# Altium integrated library ON Semi General Purpose Transistors.IntLib: 1679 symbols (part 33 of 36)
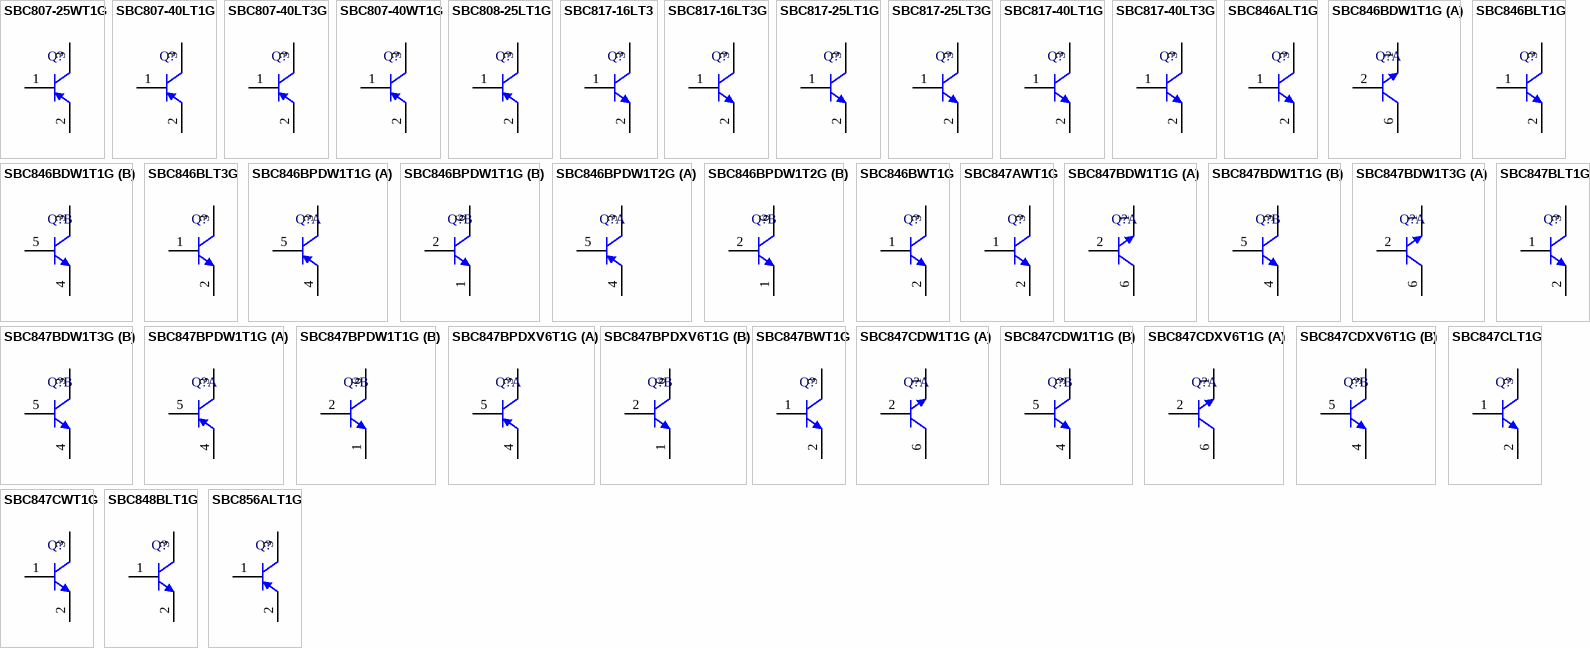
[diagram p77: symbols SBC807-25WT1G to SBC856ALT1G]

## SBC847CDW1T1G
designator Q?
Dual General Purpose Transistors, NPN, 6-Pin SOT-363, Pb-Free, Tape and Reel; Manufacturer: On Semiconductor; PartNumber: SBC847CDW1T1G; fT Min (MHz): 100; IC Continuous (A): 0.1; Polarity: Dual NPN; DatasheetVersion: Rev. 9; PackageVersion: Rev. W, 01/2006; PackageReference: SOT-363-6-419B-02_W; PackageDescription: 6-Pin Small Outline Transistor, Body 2 x 1.25 mm, Pitch 0.65 mm; Supplier 1: Digi-Key; Supplier Part Number 1: SBC847CDW1T1G-ND; Supplier 2: Mouser; Supplier Part Number 2: 863-SBC847CDW1T1G; Packing: Tape and Reel; RoHS: TRUE; Mounting Technology: Surface Mount; ComponentLink1Description: Manufacturer URL; ComponentLink1URL: http://www.onsemi.com/; ComponentLink2Description: Datasheet; ComponentLink2URL: http://www.onsemi.cn/pub_link/Collateral/BC846BDW1T1-D.PDF; ComponentLink3Description: Package Specification; ComponentLink3URL: http://www.onsemi.com/pub_link/Collateral/NTJD4001N-D.PDF
footprint ONSC-SOT-363-6-419B-02_W_V (SOT23, 6-Leads, Body 2x1.25mm, Pitch 0.65mm)
part A pins: 1 E, 2 B, 6 C
part B pins: 3 C, 4 E, 5 B

## SBC847CDXV6T1G
designator Q?
Dual General Purpose Transistors, NPN, 6-Pin SOT-563, Pb-Free, Tape and Reel; Manufacturer: On Semiconductor; PartNumber: SBC847CDXV6T1G; fT Min (MHz): 100; IC Continuous (A): 0.1; Polarity: Dual NPN; DatasheetVersion: Rev. 4; PackageVersion: Rev. F, 04/2005; PackageReference: SOT-563-6-463A-01; PackageDescription: 6-Pin Small Outline Transistor, Body 1.6 x 1.2 mm, Pitch 0.5 mm; Supplier 1: Digi-Key; Supplier Part Number 1: SBC847CDXV6T1G-ND; Supplier 2: Mouser; Supplier Part Number 2: 863-SBC847CDXV6T1G; Packing: Tape and Reel; RoHS: TRUE; Mounting Technology: Surface Mount; ComponentLink1Description: Manufacturer URL; ComponentLink1URL: http://www.onsemi.com/; ComponentLink2Description: Datasheet; ComponentLink2URL: http://www.onsemi.cn/pub_link/Collateral/BC847CDXV6T1-D.PDF; ComponentLink3Description: Package Specification; ComponentLink3URL: http://www.onsemi.cn/pub_link/Collateral/463A-01.PDF
footprint ONSC-SOT-563-6-463A-01_V (SOT23, 6-Leads, Body 1.6x1.2mm, Pitch 0.5mm)
part A pins: 1 E, 2 B, 6 C
part B pins: 3 C, 4 E, 5 B

## SBC847CLT1G
designator Q?
General Purpose Transistor, NPN Silicon, 3-Pin SOT-23, Pb-Free, Tape and Reel; Manufacturer: On Semiconductor; PartNumber: SBC847CLT1G; fT Min (MHz): 100; IC Continuous (A): 0.1; DatasheetVersion: Rev. 11; PackageVersion: Rev. AP, 11/2009; PackageReference: SOT-23-3-318-08; PackageDescription: 3-Pin Small Outline Transistor, Body 2.92 x 1.3 mm, Pitch 0.95 mm; Supplier 1: Digi-Key; Supplier Part Number 1: SBC847CLT1G-ND; Supplier 2: Mouser; Supplier Part Number 2: 863-SBC847CLT1G; Packing: Tape and Reel; Polarity: NPN; RoHS: TRUE; Mounting Technology: Surface Mount; ComponentLink1Description: Manufacturer URL; ComponentLink1URL: http://www.onsemi.com/; ComponentLink2Description: Datasheet; ComponentLink2URL: http://www.onsemi.cn/pub_link/Collateral/BC846ALT1-D.PDF; ComponentLink3Description: Package Specification; ComponentLink3URL: http://www.onsemi.cn/pub_link/Collateral/318-08.PDF
footprint ONSC-SOT-23-3-318-08_V (SOT23, 3-Leads, Body 2.92x1.3mm, Pitch 0.95mm)
pins: 1 B, 2 E, 3 C

## SBC847CWT1G
designator Q?
General Purpose Transistor, NPN Silicon, 3-Pin SC70, Pb-Free, Tape and Reel; Manufacturer: On Semiconductor; PartNumber: SBC847CWT1G; fT Min (MHz): 100; IC Continuous (A): 0.1; DatasheetVersion: Rev. 9; PackageVersion: Rev. N, 11/2008; PackageReference: SC-70-3-419-04; PackageDescription: 3-Pin Small Outline Transistor, Body 2 x 1.25 mm, Pitch 0.65 mm; Supplier 1: Digi-Key; Supplier Part Number 1: SBC847CWT1G-ND; Supplier 2: Mouser; Supplier Part Number 2: 863-SBC847CWT1G; Packing: Tape and Reel; Polarity: NPN; RoHS: TRUE; Mounting Technology: Surface Mount; ComponentLink1Description: Manufacturer URL; ComponentLink1URL: http://www.onsemi.com/; ComponentLink2Description: Datasheet; ComponentLink2URL: http://www.onsemi.cn/pub_link/Collateral/BC846AWT1-D.PDF; ComponentLink3Description: Package Specification; ComponentLink3URL: http://www.onsemi.cn/pub_link/Collateral/419-04.PDF
footprint ONSC-SC-70-3-419-04_V (SOT23, 3-Leads, Body 2x1.25mm, Pitch 0.65mm)
pins: 1 B, 2 E, 3 C

## SBC848BLT1G
designator Q?
General Purpose Transistor, NPN Silicon, 3-Pin SOT-23, Pb-Free, Tape and Reel; Manufacturer: On Semiconductor; PartNumber: SBC848BLT1G; fT Min (MHz): 100; IC Continuous (A): 0.1; DatasheetVersion: Rev. 11; PackageVersion: Rev. AP, 11/2009; PackageReference: SOT-23-3-318-08; PackageDescription: 3-Pin Small Outline Transistor, Body 2.92 x 1.3 mm, Pitch 0.95 mm; Supplier 1: Digi-Key; Supplier Part Number 1: SBC848BLT1G-ND; Supplier 2: Mouser; Supplier Part Number 2: 863-SBC848BLT1G; Packing: Tape and Reel; Polarity: NPN; RoHS: TRUE; Mounting Technology: Surface Mount; ComponentLink1Description: Manufacturer URL; ComponentLink1URL: http://www.onsemi.com/; ComponentLink2Description: Datasheet; ComponentLink2URL: http://www.onsemi.cn/pub_link/Collateral/BC846ALT1-D.PDF; ComponentLink3Description: Package Specification; ComponentLink3URL: http://www.onsemi.cn/pub_link/Collateral/318-08.PDF
footprint ONSC-SOT-23-3-318-08_V (SOT23, 3-Leads, Body 2.92x1.3mm, Pitch 0.95mm)
pins: 1 B, 2 E, 3 C

## SBC856ALT1G
designator Q?
General Purpose Transistor, PNP Silicon, 3-Pin SOT-23, Pb-Free, Tape and Reel; Manufacturer: On Semiconductor; PartNumber: SBC856ALT1G; fT Min (MHz): 100; IC Continuous (A): -0.1; DatasheetVersion: Rev. 13; PackageVersion: Rev. AP, 11/2009; PackageReference: SOT-23-3-318-08; PackageDescription: 3-Pin Small Outline Transistor, Body 2.92 x 1.3 mm, Pitch 0.95 mm; Supplier 1: Digi-Key; Supplier Part Number 1: SBC856ALT1G-ND; Supplier 2: Mouser; Supplier Part Number 2: 863-SBC856ALT1G; Packing: Tape and Reel; Polarity: PNP; RoHS: TRUE; Mounting Technology: Surface Mount; ComponentLink1Description: Manufacturer URL; ComponentLink1URL: http://www.onsemi.com/; ComponentLink2Description: Datasheet; ComponentLink2URL: http://www.onsemi.cn/pub_link/Collateral/BC856ALT1-D.PDF; ComponentLink3Description: Package Specification; ComponentLink3URL: http://www.onsemi.cn/pub_link/Collateral/318-08.PDF
footprint ONSC-SOT-23-3-318-08_V (SOT23, 3-Leads, Body 2.92x1.3mm, Pitch 0.95mm)
pins: 1 B, 2 E, 3 C

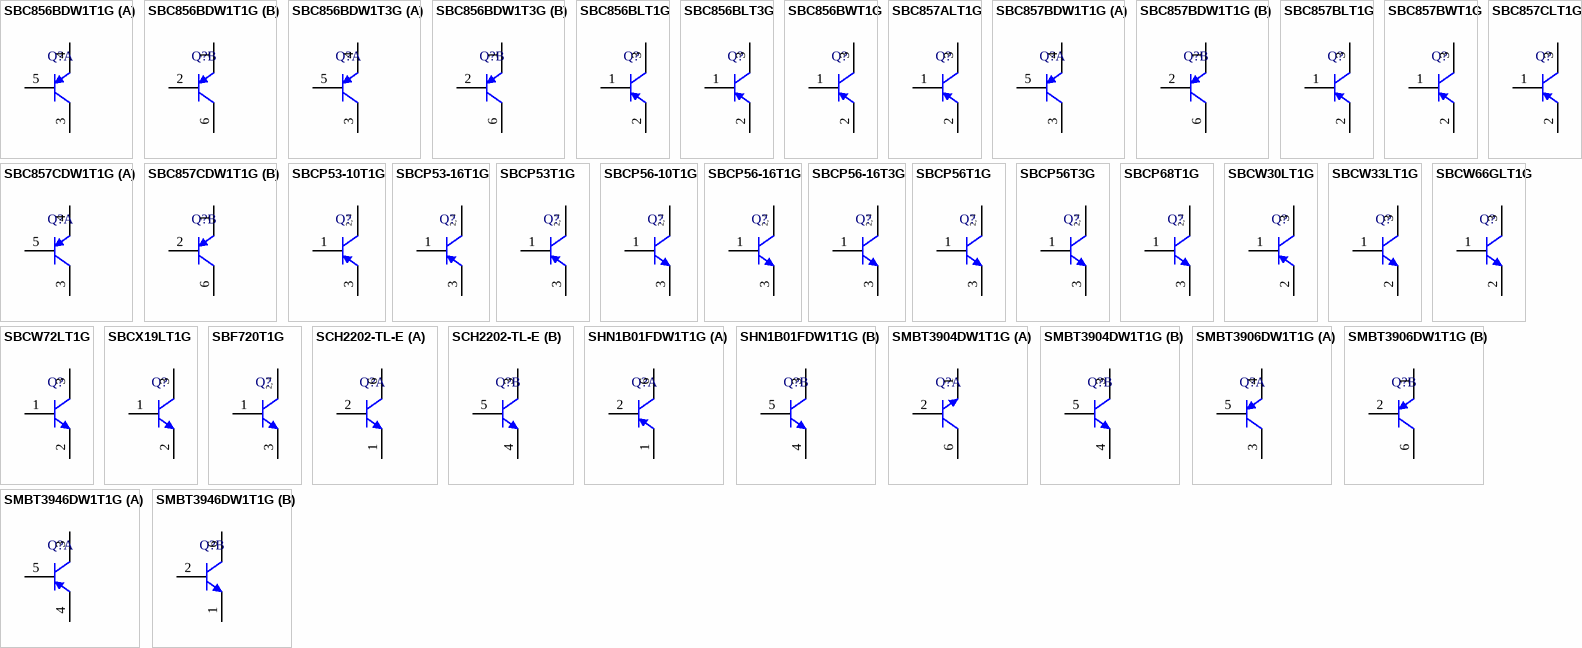
[diagram p41: symbols SBC856BDW1T1G to SMBT3946DW1T1G]

## SBC856BDW1T1G
designator Q?
Dual General Purpose Transistors, PNP, 6-Pin SOT-363, Pb-Free, Tape and Reel; Manufacturer: On Semiconductor; PartNumber: SBC856BDW1T1G; fT Min (MHz): 100; IC Continuous (A): -0.1; Polarity: Dual PNP; DatasheetVersion: Rev. 9; PackageVersion: Rev. W, 01/2006; PackageReference: SOT-363-6-419B-02_W; PackageDescription: 6-Pin Small Outline Transistor, Body 2 x 1.25 mm, Pitch 0.65 mm; Supplier 1: Digi-Key; Supplier Part Number 1: SBC856BDW1T1G-ND; Supplier 2: Mouser; Supplier Part Number 2: 863-SBC856BDW1T1G; Packing: Tape and Reel; RoHS: TRUE; Mounting Technology: Surface Mount; ComponentLink1Description: Manufacturer URL; ComponentLink1URL: http://www.onsemi.com/; ComponentLink2Description: Datasheet; ComponentLink2URL: http://www.onsemi.cn/pub_link/Collateral/BC856BDW1T1-D.PDF; ComponentLink3Description: Package Specification; ComponentLink3URL: http://www.onsemi.com/pub_link/Collateral/NTJD4001N-D.PDF
footprint ONSC-SOT-363-6-419B-02_W_V (SOT23, 6-Leads, Body 2x1.25mm, Pitch 0.65mm)
part A pins: 3 C, 4 E, 5 B
part B pins: 1 E, 2 B, 6 C

## SBC856BDW1T3G
designator Q?
Dual General Purpose Transistors, PNP, 6-Pin SOT-363, Pb-Free, Tape and Reel; Manufacturer: On Semiconductor; PartNumber: SBC856BDW1T3G; fT Min (MHz): 100; IC Continuous (A): -0.1; Polarity: Dual PNP; DatasheetVersion: Rev. 9; PackageVersion: Rev. W, 01/2006; PackageReference: SOT-363-6-419B-02_W; PackageDescription: 6-Pin Small Outline Transistor, Body 2 x 1.25 mm, Pitch 0.65 mm; Supplier 1: Digi-Key; Supplier Part Number 1: SBC856BDW1T3G-ND; Supplier 2: Mouser; Supplier Part Number 2: 863-SBC856BDW1T3G; Packing: Tape and Reel; RoHS: TRUE; Mounting Technology: Surface Mount; ComponentLink1Description: Manufacturer URL; ComponentLink1URL: http://www.onsemi.com/; ComponentLink2Description: Datasheet; ComponentLink2URL: http://www.onsemi.cn/pub_link/Collateral/BC856BDW1T1-D.PDF; ComponentLink3Description: Package Specification; ComponentLink3URL: http://www.onsemi.com/pub_link/Collateral/NTJD4001N-D.PDF
footprint ONSC-SOT-363-6-419B-02_W_V (SOT23, 6-Leads, Body 2x1.25mm, Pitch 0.65mm)
part A pins: 3 C, 4 E, 5 B
part B pins: 1 E, 2 B, 6 C

## SBC856BLT1G
designator Q?
General Purpose Transistor, PNP Silicon, 3-Pin SOT-23, Pb-Free, Tape and Reel; Manufacturer: On Semiconductor; PartNumber: SBC856BLT1G; fT Min (MHz): 100; IC Continuous (A): -0.1; DatasheetVersion: Rev. 13; PackageVersion: Rev. AP, 11/2009; PackageReference: SOT-23-3-318-08; PackageDescription: 3-Pin Small Outline Transistor, Body 2.92 x 1.3 mm, Pitch 0.95 mm; Supplier 1: Digi-Key; Supplier Part Number 1: SBC856BLT1G-ND; Supplier 2: Mouser; Supplier Part Number 2: 863-SBC856BLT1G; Packing: Tape and Reel; Polarity: PNP; RoHS: TRUE; Mounting Technology: Surface Mount; ComponentLink1Description: Manufacturer URL; ComponentLink1URL: http://www.onsemi.com/; ComponentLink2Description: Datasheet; ComponentLink2URL: http://www.onsemi.cn/pub_link/Collateral/BC856ALT1-D.PDF; ComponentLink3Description: Package Specification; ComponentLink3URL: http://www.onsemi.cn/pub_link/Collateral/318-08.PDF
footprint ONSC-SOT-23-3-318-08_V (SOT23, 3-Leads, Body 2.92x1.3mm, Pitch 0.95mm)
pins: 1 B, 2 E, 3 C

## SBC856BLT3G
designator Q?
General Purpose Transistor, PNP Silicon, 3-Pin SOT-23, Pb-Free, Tape and Reel; Manufacturer: On Semiconductor; PartNumber: SBC856BLT3G; fT Min (MHz): 100; IC Continuous (A): -0.1; DatasheetVersion: Rev. 13; PackageVersion: Rev. AP, 11/2009; PackageReference: SOT-23-3-318-08; PackageDescription: 3-Pin Small Outline Transistor, Body 2.92 x 1.3 mm, Pitch 0.95 mm; Supplier 1: Digi-Key; Supplier Part Number 1: SBC856BLT3G-ND; Supplier 2: Mouser; Supplier Part Number 2: 863-SBC856BLT3G; Packing: Tape and Reel; Polarity: PNP; RoHS: TRUE; Mounting Technology: Surface Mount; ComponentLink1Description: Manufacturer URL; ComponentLink1URL: http://www.onsemi.com/; ComponentLink2Description: Datasheet; ComponentLink2URL: http://www.onsemi.cn/pub_link/Collateral/BC856ALT1-D.PDF; ComponentLink3Description: Package Specification; ComponentLink3URL: http://www.onsemi.cn/pub_link/Collateral/318-08.PDF
footprint ONSC-SOT-23-3-318-08_V (SOT23, 3-Leads, Body 2.92x1.3mm, Pitch 0.95mm)
pins: 1 B, 2 E, 3 C

## SBC856BWT1G
designator Q?
General Purpose Transistor, PNP Silicon, 3-Pin SC70, Pb-Free, Tape and Reel; Manufacturer: On Semiconductor; PartNumber: SBC856BWT1G; fT Min (MHz): 100; IC Continuous (A): -0.1; DatasheetVersion: Rev. 3; PackageVersion: Rev. N, 11/2008; PackageReference: SC-70-3-419-04; PackageDescription: 3-Pin Small Outline Transistor, Body 2 x 1.25 mm, Pitch 0.65 mm; Supplier 1: Digi-Key; Supplier Part Number 1: SBC856BWT1G-ND; Supplier 2: Mouser; Supplier Part Number 2: 863-SBC856BWT1G; Packing: Tape and Reel; Polarity: PNP; RoHS: TRUE; Mounting Technology: Surface Mount; ComponentLink1Description: Manufacturer URL; ComponentLink1URL: http://www.onsemi.com/; ComponentLink2Description: Datasheet; ComponentLink2URL: http://www.onsemi.cn/pub_link/Collateral/BC856BWT1-D.PDF; ComponentLink3Description: Package Specification; ComponentLink3URL: http://www.onsemi.cn/pub_link/Collateral/419-04.PDF
footprint ONSC-SC-70-3-419-04_V (SOT23, 3-Leads, Body 2x1.25mm, Pitch 0.65mm)
pins: 1 B, 2 E, 3 C

## SBC857ALT1G
designator Q?
General Purpose Transistor, PNP Silicon, 3-Pin SOT-23, Pb-Free, Tape and Reel; Manufacturer: On Semiconductor; PartNumber: SBC857ALT1G; fT Min (MHz): 100; IC Continuous (A): -0.1; DatasheetVersion: Rev. 13; PackageVersion: Rev. AP, 11/2009; PackageReference: SOT-23-3-318-08; PackageDescription: 3-Pin Small Outline Transistor, Body 2.92 x 1.3 mm, Pitch 0.95 mm; Supplier 1: Digi-Key; Supplier Part Number 1: SBC857ALT1G-ND; Supplier 2: Mouser; Supplier Part Number 2: 863-SBC857ALT1G; Packing: Tape and Reel; Polarity: PNP; RoHS: TRUE; Mounting Technology: Surface Mount; ComponentLink1Description: Manufacturer URL; ComponentLink1URL: http://www.onsemi.com/; ComponentLink2Description: Datasheet; ComponentLink2URL: http://www.onsemi.cn/pub_link/Collateral/BC856ALT1-D.PDF; ComponentLink3Description: Package Specification; ComponentLink3URL: http://www.onsemi.cn/pub_link/Collateral/318-08.PDF
footprint ONSC-SOT-23-3-318-08_V (SOT23, 3-Leads, Body 2.92x1.3mm, Pitch 0.95mm)
pins: 1 B, 2 E, 3 C

## SBC857BDW1T1G
designator Q?
Dual General Purpose Transistors, PNP, 6-Pin SOT-363, Pb-Free, Tape and Reel; Manufacturer: On Semiconductor; PartNumber: SBC857BDW1T1G; fT Min (MHz): 100; IC Continuous (A): -0.1; Polarity: Dual PNP; DatasheetVersion: Rev. 9; PackageVersion: Rev. W, 01/2006; PackageReference: SOT-363-6-419B-02_W; PackageDescription: 6-Pin Small Outline Transistor, Body 2 x 1.25 mm, Pitch 0.65 mm; Supplier 1: Digi-Key; Supplier Part Number 1: SBC857BDW1T1G-ND; Supplier 2: Mouser; Supplier Part Number 2: 863-SBC857BDW1T1G; Packing: Tape and Reel; RoHS: TRUE; Mounting Technology: Surface Mount; ComponentLink1Description: Manufacturer URL; ComponentLink1URL: http://www.onsemi.com/; ComponentLink2Description: Datasheet; ComponentLink2URL: http://www.onsemi.cn/pub_link/Collateral/BC856BDW1T1-D.PDF; ComponentLink3Description: Package Specification; ComponentLink3URL: http://www.onsemi.com/pub_link/Collateral/NTJD4001N-D.PDF
footprint ONSC-SOT-363-6-419B-02_W_V (SOT23, 6-Leads, Body 2x1.25mm, Pitch 0.65mm)
part A pins: 3 C, 4 E, 5 B
part B pins: 1 E, 2 B, 6 C

## SBC857BLT1G
designator Q?
General Purpose Transistor, PNP Silicon, 3-Pin SOT-23, Pb-Free, Tape and Reel; Manufacturer: On Semiconductor; PartNumber: SBC857BLT1G; fT Min (MHz): 100; IC Continuous (A): -0.1; DatasheetVersion: Rev. 13; PackageVersion: Rev. AP, 11/2009; PackageReference: SOT-23-3-318-08; PackageDescription: 3-Pin Small Outline Transistor, Body 2.92 x 1.3 mm, Pitch 0.95 mm; Supplier 1: Digi-Key; Supplier Part Number 1: SBC857BLT1G-ND; Supplier 2: Mouser; Supplier Part Number 2: 863-SBC857BLT1G; Packing: Tape and Reel; Polarity: PNP; RoHS: TRUE; Mounting Technology: Surface Mount; ComponentLink1Description: Manufacturer URL; ComponentLink1URL: http://www.onsemi.com/; ComponentLink2Description: Datasheet; ComponentLink2URL: http://www.onsemi.cn/pub_link/Collateral/BC856ALT1-D.PDF; ComponentLink3Description: Package Specification; ComponentLink3URL: http://www.onsemi.cn/pub_link/Collateral/318-08.PDF
footprint ONSC-SOT-23-3-318-08_V (SOT23, 3-Leads, Body 2.92x1.3mm, Pitch 0.95mm)
pins: 1 B, 2 E, 3 C

## SBC857BWT1G
designator Q?
General Purpose Transistor, PNP Silicon, 3-Pin SC70, Pb-Free, Tape and Reel; Manufacturer: On Semiconductor; PartNumber: SBC857BWT1G; fT Min (MHz): 100; IC Continuous (A): -0.1; DatasheetVersion: Rev. 3; PackageVersion: Rev. N, 11/2008; PackageReference: SC-70-3-419-04; PackageDescription: 3-Pin Small Outline Transistor, Body 2 x 1.25 mm, Pitch 0.65 mm; Supplier 1: Digi-Key; Supplier Part Number 1: SBC857BWT1G-ND; Supplier 2: Mouser; Supplier Part Number 2: 863-SBC857BWT1G; Packing: Tape and Reel; Polarity: PNP; RoHS: TRUE; Mounting Technology: Surface Mount; ComponentLink1Description: Manufacturer URL; ComponentLink1URL: http://www.onsemi.com/; ComponentLink2Description: Datasheet; ComponentLink2URL: http://www.onsemi.cn/pub_link/Collateral/BC856BWT1-D.PDF; ComponentLink3Description: Package Specification; ComponentLink3URL: http://www.onsemi.cn/pub_link/Collateral/419-04.PDF
footprint ONSC-SC-70-3-419-04_V (SOT23, 3-Leads, Body 2x1.25mm, Pitch 0.65mm)
pins: 1 B, 2 E, 3 C

## SBC857CDW1T1G
designator Q?
Dual General Purpose Transistors, PNP, 6-Pin SOT-363, Pb-Free, Tape and Reel; Manufacturer: On Semiconductor; PartNumber: SBC857CDW1T1G; fT Min (MHz): 100; IC Continuous (A): -0.1; Polarity: Dual PNP; DatasheetVersion: Rev. 9; PackageVersion: Rev. W, 01/2006; PackageReference: SOT-363-6-419B-02_W; PackageDescription: 6-Pin Small Outline Transistor, Body 2 x 1.25 mm, Pitch 0.65 mm; Supplier 1: Digi-Key; Supplier Part Number 1: SBC857CDW1T1G-ND; Supplier 2: Mouser; Supplier Part Number 2: 863-SBC857CDW1T1G; Packing: Tape and Reel; RoHS: TRUE; Mounting Technology: Surface Mount; ComponentLink1Description: Manufacturer URL; ComponentLink1URL: http://www.onsemi.com/; ComponentLink2Description: Datasheet; ComponentLink2URL: http://www.onsemi.cn/pub_link/Collateral/BC856BDW1T1-D.PDF; ComponentLink3Description: Package Specification; ComponentLink3URL: http://www.onsemi.com/pub_link/Collateral/NTJD4001N-D.PDF
footprint ONSC-SOT-363-6-419B-02_W_V (SOT23, 6-Leads, Body 2x1.25mm, Pitch 0.65mm)
part A pins: 3 C, 4 E, 5 B
part B pins: 1 E, 2 B, 6 C

## SBC857CLT1G
designator Q?
General Purpose Transistor, PNP Silicon, 3-Pin SOT-23, Pb-Free, Tape and Reel; Manufacturer: On Semiconductor; PartNumber: SBC857CLT1G; fT Min (MHz): 100; IC Continuous (A): -0.1; DatasheetVersion: Rev. 13; PackageVersion: Rev. AP, 11/2009; PackageReference: SOT-23-3-318-08; PackageDescription: 3-Pin Small Outline Transistor, Body 2.92 x 1.3 mm, Pitch 0.95 mm; Supplier 1: Digi-Key; Supplier Part Number 1: SBC857CLT1G-ND; Supplier 2: Mouser; Supplier Part Number 2: 863-SBC857CLT1G; Packing: Tape and Reel; Polarity: PNP; RoHS: TRUE; Mounting Technology: Surface Mount; ComponentLink1Description: Manufacturer URL; ComponentLink1URL: http://www.onsemi.com/; ComponentLink2Description: Datasheet; ComponentLink2URL: http://www.onsemi.cn/pub_link/Collateral/BC856ALT1-D.PDF; ComponentLink3Description: Package Specification; ComponentLink3URL: http://www.onsemi.cn/pub_link/Collateral/318-08.PDF
footprint ONSC-SOT-23-3-318-08_V (SOT23, 3-Leads, Body 2.92x1.3mm, Pitch 0.95mm)
pins: 1 B, 2 E, 3 C

## SBCP53-10T1G
designator Q?
PNP Silicon Epitaxial Transistor, 4-Pin SOT-223, Pb-Free, Tape and Reel; Manufacturer: On Semiconductor; PartNumber: SBCP53-10T1G; IC Continuous (A): 1.5; DatasheetVersion: Rev. 10; PackageVersion: Rev. N, 08/2009; PackageReference: SOT-223-4-318E-04; PackageDescription: 4-Pin Small Outline Transistor, Body 6.5 x 3.5 mm, Pitch 2.3 mm; Supplier 1: Digi-Key; Supplier Part Number 1: SBCP53-10T1G-ND; Supplier 2: Mouser; Supplier Part Number 2: 863-SBCP53-10T1G; Packing: Tape and Reel; Polarity: PNP; RoHS: TRUE; Mounting Technology: Surface Mount; ComponentLink1Description: Manufacturer URL; ComponentLink1URL: http://www.onsemi.com/; ComponentLink2Description: Datasheet; ComponentLink2URL: http://www.onsemi.com/pub_link/Collateral/BCP53T1-D.PDF; ComponentLink3Description: Package Specification; ComponentLink3URL: http://www.onsemi.com/pub_link/Collateral/318E-04.PDF
footprint ONSC-SOT-223-4-318E-04_V (SOT223, 4-Leads, Body 6.5x3.5mm, Pitch 2.3mm)
pins: 1 B, 2 C, 3 E, 4 C
text: 2, 4

## SBCP53-16T1G
designator Q?
PNP Silicon Epitaxial Transistor, 4-Pin SOT-223, Pb-Free, Tape and Reel; Manufacturer: On Semiconductor; PartNumber: SBCP53-16T1G; IC Continuous (A): 1.5; DatasheetVersion: Rev. 10; PackageVersion: Rev. N, 08/2009; PackageReference: SOT-223-4-318E-04; PackageDescription: 4-Pin Small Outline Transistor, Body 6.5 x 3.5 mm, Pitch 2.3 mm; Supplier 1: Digi-Key; Supplier Part Number 1: SBCP53-16T1G-ND; Supplier 2: Newark; Supplier Part Number 2: 76T7121; Supplier 3: Mouser; Supplier Part Number 3: 863-SBCP53-16T1G; Packing: Tape and Reel; Polarity: PNP; RoHS: TRUE; Mounting Technology: Surface Mount; ComponentLink1Description: Manufacturer URL; ComponentLink1URL: http://www.onsemi.com/; ComponentLink2Description: Datasheet; ComponentLink2URL: http://www.onsemi.com/pub_link/Collateral/BCP53T1-D.PDF; ComponentLink3Description: Package Specification; ComponentLink3URL: http://www.onsemi.com/pub_link/Collateral/318E-04.PDF
footprint ONSC-SOT-223-4-318E-04_V (SOT223, 4-Leads, Body 6.5x3.5mm, Pitch 2.3mm)
pins: 1 B, 2 C, 3 E, 4 C
text: 2, 4

## SBCP53T1G
designator Q?
PNP Silicon Epitaxial Transistor, 4-Pin SOT-223, Pb-Free, Tape and Reel; Manufacturer: On Semiconductor; PartNumber: SBCP53T1G; IC Continuous (A): 1.5; DatasheetVersion: Rev. 10; PackageVersion: Rev. N, 08/2009; PackageReference: SOT-223-4-318E-04; PackageDescription: 4-Pin Small Outline Transistor, Body 6.5 x 3.5 mm, Pitch 2.3 mm; Supplier 1: Digi-Key; Supplier Part Number 1: SBCP53T1G-ND; Supplier 2: Mouser; Supplier Part Number 2: 863-SBCP53T1G; Packing: Tape and Reel; Polarity: PNP; RoHS: TRUE; Mounting Technology: Surface Mount; ComponentLink1Description: Manufacturer URL; ComponentLink1URL: http://www.onsemi.com/; ComponentLink2Description: Datasheet; ComponentLink2URL: http://www.onsemi.com/pub_link/Collateral/BCP53T1-D.PDF; ComponentLink3Description: Package Specification; ComponentLink3URL: http://www.onsemi.com/pub_link/Collateral/318E-04.PDF
footprint ONSC-SOT-223-4-318E-04_V (SOT223, 4-Leads, Body 6.5x3.5mm, Pitch 2.3mm)
pins: 1 B, 2 C, 3 E, 4 C
text: 2, 4

## SBCP56-10T1G
designator Q?
NPN Silicon Epitaxial Transistor, 4-Pin SOT-223, Pb-Free, Tape and Reel; Manufacturer: On Semiconductor; PartNumber: SBCP56-10T1G; IC Continuous (A): 1; DatasheetVersion: Rev. 8; PackageVersion: Rev. N, 08/2009; PackageReference: SOT-223-4-318E-04; PackageDescription: 4-Pin Small Outline Transistor, Body 6.5 x 3.5 mm, Pitch 2.3 mm; Supplier 1: Digi-Key; Supplier Part Number 1: SBCP56-10T1G-ND; Supplier 2: Newark; Supplier Part Number 2: 76T7123; Supplier 3: Mouser; Supplier Part Number 3: 863-SBCP56-10T1G; Packing: Tape and Reel; Polarity: NPN; RoHS: TRUE; Mounting Technology: Surface Mount; ComponentLink1Description: Manufacturer URL; ComponentLink1URL: http://www.onsemi.com/; ComponentLink2Description: Datasheet; ComponentLink2URL: http://www.onsemi.com/pub_link/Collateral/BCP56T1-D.PDF; ComponentLink3Description: Package Specification; ComponentLink3URL: http://www.onsemi.com/pub_link/Collateral/318E-04.PDF
footprint ONSC-SOT-223-4-318E-04_V (SOT223, 4-Leads, Body 6.5x3.5mm, Pitch 2.3mm)
pins: 1 B, 2 C, 3 E, 4 C
text: 2, 4

## SBCP56-16T1G
designator Q?
NPN Silicon Epitaxial Transistor, 4-Pin SOT-223, Pb-Free, Tape and Reel; Manufacturer: On Semiconductor; PartNumber: SBCP56-16T1G; IC Continuous (A): 1; DatasheetVersion: Rev. 8; PackageVersion: Rev. N, 08/2009; PackageReference: SOT-223-4-318E-04; PackageDescription: 4-Pin Small Outline Transistor, Body 6.5 x 3.5 mm, Pitch 2.3 mm; Supplier 1: Digi-Key; Supplier Part Number 1: SBCP56-16T1G-ND; Supplier 2: Newark; Supplier Part Number 2: 76T7124; Supplier 3: Mouser; Supplier Part Number 3: 863-SBCP56-16T1G; Packing: Tape and Reel; Polarity: NPN; RoHS: TRUE; Mounting Technology: Surface Mount; ComponentLink1Description: Manufacturer URL; ComponentLink1URL: http://www.onsemi.com/; ComponentLink2Description: Datasheet; ComponentLink2URL: http://www.onsemi.com/pub_link/Collateral/BCP56T1-D.PDF; ComponentLink3Description: Package Specification; ComponentLink3URL: http://www.onsemi.com/pub_link/Collateral/318E-04.PDF
footprint ONSC-SOT-223-4-318E-04_V (SOT223, 4-Leads, Body 6.5x3.5mm, Pitch 2.3mm)
pins: 1 B, 2 C, 3 E, 4 C
text: 2, 4

## SBCP56-16T3G
designator Q?
NPN Silicon Epitaxial Transistor, 4-Pin SOT-223, Pb-Free, Tape and Reel; Manufacturer: On Semiconductor; PartNumber: SBCP56-16T3G; IC Continuous (A): 1; DatasheetVersion: Rev. 8; PackageVersion: Rev. N, 08/2009; PackageReference: SOT-223-4-318E-04; PackageDescription: 4-Pin Small Outline Transistor, Body 6.5 x 3.5 mm, Pitch 2.3 mm; Supplier 1: Digi-Key; Supplier Part Number 1: SBCP56-16T3G-ND; Supplier 2: Mouser; Supplier Part Number 2: 863-SBCP56-16T3G; Packing: Tape and Reel; Polarity: NPN; RoHS: TRUE; Mounting Technology: Surface Mount; ComponentLink1Description: Manufacturer URL; ComponentLink1URL: http://www.onsemi.com/; ComponentLink2Description: Datasheet; ComponentLink2URL: http://www.onsemi.com/pub_link/Collateral/BCP56T1-D.PDF; ComponentLink3Description: Package Specification; ComponentLink3URL: http://www.onsemi.com/pub_link/Collateral/318E-04.PDF
footprint ONSC-SOT-223-4-318E-04_V (SOT223, 4-Leads, Body 6.5x3.5mm, Pitch 2.3mm)
pins: 1 B, 2 C, 3 E, 4 C
text: 2, 4

## SBCP56T1G
designator Q?
NPN Silicon Epitaxial Transistor, 4-Pin SOT-223, Pb-Free, Tape and Reel; Manufacturer: On Semiconductor; PartNumber: SBCP56T1G; IC Continuous (A): 1; DatasheetVersion: Rev. 8; PackageVersion: Rev. N, 08/2009; PackageReference: SOT-223-4-318E-04; PackageDescription: 4-Pin Small Outline Transistor, Body 6.5 x 3.5 mm, Pitch 2.3 mm; Supplier 1: Digi-Key; Supplier Part Number 1: SBCP56T1G-ND; Supplier 2: Newark; Supplier Part Number 2: 76T7126; Supplier 3: Mouser; Supplier Part Number 3: 863-SBCP56T1G; Packing: Tape and Reel; Polarity: NPN; RoHS: TRUE; Mounting Technology: Surface Mount; ComponentLink1Description: Manufacturer URL; ComponentLink1URL: http://www.onsemi.com/; ComponentLink2Description: Datasheet; ComponentLink2URL: http://www.onsemi.com/pub_link/Collateral/BCP56T1-D.PDF; ComponentLink3Description: Package Specification; ComponentLink3URL: http://www.onsemi.com/pub_link/Collateral/318E-04.PDF
footprint ONSC-SOT-223-4-318E-04_V (SOT223, 4-Leads, Body 6.5x3.5mm, Pitch 2.3mm)
pins: 1 B, 2 C, 3 E, 4 C
text: 2, 4

## SBCP56T3G
designator Q?
NPN Silicon Epitaxial Transistor, 4-Pin SOT-223, Pb-Free, Tape and Reel; Manufacturer: On Semiconductor; PartNumber: SBCP56T3G; IC Continuous (A): 1; DatasheetVersion: Rev. 8; PackageVersion: Rev. N, 08/2009; PackageReference: SOT-223-4-318E-04; PackageDescription: 4-Pin Small Outline Transistor, Body 6.5 x 3.5 mm, Pitch 2.3 mm; Supplier 1: Digi-Key; Supplier Part Number 1: SBCP56T3G-ND; Supplier 2: Mouser; Supplier Part Number 2: 863-SBCP56T3G; Packing: Tape and Reel; Polarity: NPN; RoHS: TRUE; Mounting Technology: Surface Mount; ComponentLink1Description: Manufacturer URL; ComponentLink1URL: http://www.onsemi.com/; ComponentLink2Description: Datasheet; ComponentLink2URL: http://www.onsemi.com/pub_link/Collateral/BCP56T1-D.PDF; ComponentLink3Description: Package Specification; ComponentLink3URL: http://www.onsemi.com/pub_link/Collateral/318E-04.PDF
footprint ONSC-SOT-223-4-318E-04_V (SOT223, 4-Leads, Body 6.5x3.5mm, Pitch 2.3mm)
pins: 1 B, 2 C, 3 E, 4 C
text: 2, 4

## SBCP68T1G
designator Q?
NPN Silicon Epitaxial Transistor, 4-Pin SOT-223, Pb-Free, Tape and Reel; Manufacturer: On Semiconductor; PartNumber: SBCP68T1G; IC Continuous (A): 1; DatasheetVersion: Rev. 8; PackageVersion: Rev. N, 08/2009; PackageReference: SOT-223-4-318E-04; PackageDescription: 4-Pin Small Outline Transistor, Body 6.5 x 3.5 mm, Pitch 2.3 mm; Supplier 1: Digi-Key; Supplier Part Number 1: SBCP68T1GOSTR-ND; Supplier 2: Digi-Key; Supplier Part Number 2: SBCP68T1GOSCT-ND; Supplier 3: Digi-Key; Supplier Part Number 3: SBCP68T1GOSDKR-ND; Supplier 4: Newark; Supplier Part Number 4: 76T7128; Supplier 5: Mouser; Supplier Part Number 5: 863-SBCP68T1G; Packing: Tape and Reel; Polarity: NPN; RoHS: TRUE; Mounting Technology: Surface Mount; ComponentLink1Description: Manufacturer URL; ComponentLink1URL: http://www.onsemi.com/; ComponentLink2Description: Datasheet; ComponentLink2URL: http://www.onsemi.com/pub_link/Collateral/BCP68T1-D.PDF; ComponentLink3Description: Package Specification; ComponentLink3URL: http://www.onsemi.com/pub_link/Collateral/318E-04.PDF
footprint ONSC-SOT-223-4-318E-04_V (SOT223, 4-Leads, Body 6.5x3.5mm, Pitch 2.3mm)
pins: 1 B, 2 C, 3 E, 4 C
text: 2, 4

## SBCW30LT1G
designator Q?
General Purpose Transistor, PNP Silicon, 3-Pin SOT-23, Pb-Free, Tape and Reel; Manufacturer: On Semiconductor; PartNumber: SBCW30LT1G; IC Continuous (A): -0.1; DatasheetVersion: Rev. 3; PackageVersion: Rev. AP, 11/2009; PackageReference: SOT-23-3-318-08; PackageDescription: 3-Pin Small Outline Transistor, Body 2.92 x 1.3 mm, Pitch 0.95 mm; Supplier 1: Digi-Key; Supplier Part Number 1: SBCW30LT1G-ND; Supplier 2: Mouser; Supplier Part Number 2: 863-SBCW30LT1G; Packing: Tape and Reel; Polarity: PNP; RoHS: TRUE; Mounting Technology: Surface Mount; ComponentLink1Description: Manufacturer URL; ComponentLink1URL: http://www.onsemi.com/; ComponentLink2Description: Datasheet; ComponentLink2URL: http://www.onsemi.com/pub_link/Collateral/BCW30LT1-D.PDF; ComponentLink3Description: Package Specification; ComponentLink3URL: http://www.onsemi.cn/pub_link/Collateral/318-08.PDF
footprint ONSC-SOT-23-3-318-08_V (SOT23, 3-Leads, Body 2.92x1.3mm, Pitch 0.95mm)
pins: 1 B, 2 E, 3 C

## SBCW33LT1G
designator Q?
General Purpose Transistor, NPN Silicon, 3-Pin SOT-23, Pb-Free, Tape and Reel; Manufacturer: On Semiconductor; PartNumber: SBCW33LT1G; IC Continuous (A): 0.1; DatasheetVersion: Rev. 5; PackageVersion: Rev. AP, 11/2009; PackageReference: SOT-23-3-318-08; PackageDescription: 3-Pin Small Outline Transistor, Body 2.92 x 1.3 mm, Pitch 0.95 mm; Supplier 1: Digi-Key; Supplier Part Number 1: SBCW33LT1G-ND; Supplier 2: Mouser; Supplier Part Number 2: 863-SBCW33LT1G; Packing: Tape and Reel; Polarity: NPN; RoHS: TRUE; Mounting Technology: Surface Mount; ComponentLink1Description: Manufacturer URL; ComponentLink1URL: http://www.onsemi.com/; ComponentLink2Description: Datasheet; ComponentLink2URL: http://www.onsemi.com/pub_link/Collateral/BCW33LT1-D.PDF; ComponentLink3Description: Package Specification; ComponentLink3URL: http://www.onsemi.cn/pub_link/Collateral/318-08.PDF
footprint ONSC-SOT-23-3-318-08_V (SOT23, 3-Leads, Body 2.92x1.3mm, Pitch 0.95mm)
pins: 1 B, 2 E, 3 C

## SBCW66GLT1G
designator Q?
General Purpose Transistor, NPN Silicon, 3-Pin SOT-23, Pb-Free, Tape and Reel; Manufacturer: On Semiconductor; PartNumber: SBCW66GLT1G; fT Min (MHz): 100; IC Continuous (A): 0.8; DatasheetVersion: Rev. 5; PackageVersion: Rev. AP, 11/2009; PackageReference: SOT-23-3-318-08; PackageDescription: 3-Pin Small Outline Transistor, Body 2.92 x 1.3 mm, Pitch 0.95 mm; Supplier 1: Digi-Key; Supplier Part Number 1: SBCW66GLT1G-ND; Supplier 2: Mouser; Supplier Part Number 2: 863-SBCW66GLT1G; Packing: Tape and Reel; Polarity: NPN; RoHS: TRUE; Mounting Technology: Surface Mount; ComponentLink1Description: Manufacturer URL; ComponentLink1URL: http://www.onsemi.com/; ComponentLink2Description: Datasheet; ComponentLink2URL: http://www.onsemi.com/pub_link/Collateral/BCW66GLT1-D.PDF; ComponentLink3Description: Package Specification; ComponentLink3URL: http://www.onsemi.cn/pub_link/Collateral/318-08.PDF
footprint ONSC-SOT-23-3-318-08_V (SOT23, 3-Leads, Body 2.92x1.3mm, Pitch 0.95mm)
pins: 1 B, 2 E, 3 C

## SBCW72LT1G
designator Q?
General Purpose Transistor, NPN Silicon, 3-Pin SOT-23, Pb-Free, Tape and Reel; Manufacturer: On Semiconductor; PartNumber: SBCW72LT1G; IC Continuous (A): 0.1; DatasheetVersion: Rev. 4; PackageVersion: Rev. AP, 11/2009; PackageReference: SOT-23-3-318-08; PackageDescription: 3-Pin Small Outline Transistor, Body 2.92 x 1.3 mm, Pitch 0.95 mm; Supplier 1: Digi-Key; Supplier Part Number 1: SBCW72LT1G-ND; Supplier 2: Mouser; Supplier Part Number 2: 863-SBCW72LT1G; Packing: Tape and Reel; Polarity: NPN; RoHS: TRUE; Mounting Technology: Surface Mount; ComponentLink1Description: Manufacturer URL; ComponentLink1URL: http://www.onsemi.com/; ComponentLink2Description: Datasheet; ComponentLink2URL: http://www.onsemi.com/pub_link/Collateral/BCW72LT1-D.PDF; ComponentLink3Description: Package Specification; ComponentLink3URL: http://www.onsemi.cn/pub_link/Collateral/318-08.PDF
footprint ONSC-SOT-23-3-318-08_V (SOT23, 3-Leads, Body 2.92x1.3mm, Pitch 0.95mm)
pins: 1 B, 2 E, 3 C

## SBCX19LT1G
designator Q?
45 V, 0.5 A, NPN Transistor, 3-Pin SOT-23, Pb-Free, Tape and Reel; Manufacturer: On Semiconductor; PartNumber: SBCX19LT1G; IC Continuous (A): 0.5; DatasheetVersion: Rev. 7; PackageVersion: Rev. AP, 11/2009; PackageReference: SOT-23-3-318-08; PackageDescription: 3-Pin Small Outline Transistor, Body 2.92 x 1.3 mm, Pitch 0.95 mm; Supplier 1: Digi-Key; Supplier Part Number 1: SBCX19LT1G-ND; Supplier 2: Mouser; Supplier Part Number 2: 863-SBCX19LT1G; Packing: Tape and Reel; Polarity: NPN; RoHS: TRUE; Mounting Technology: Surface Mount; ComponentLink1Description: Manufacturer URL; ComponentLink1URL: http://www.onsemi.com/; ComponentLink2Description: Datasheet; ComponentLink2URL: http://www.onsemi.com/pub_link/Collateral/BCX17LT1-D.PDF; ComponentLink3Description: Package Specification; ComponentLink3URL: http://www.onsemi.cn/pub_link/Collateral/318-08.PDF
footprint ONSC-SOT-23-3-318-08_V (SOT23, 3-Leads, Body 2.92x1.3mm, Pitch 0.95mm)
pins: 1 B, 2 E, 3 C

## SBF720T1G
designator Q?
NPN Silicon Transistor, 4-Pin SOT-223, Pb-Free, Tape and Reel; Manufacturer: On Semiconductor; PartNumber: SBF720T1G; Note: 0; fT Min (MHz): 60; IC Continuous (A): 0.1; DatasheetVersion: Rev. 8; PackageVersion: Rev. N, 08/2009; PackageReference: SOT-223-4-318E-04; PackageDescription: 4-Pin Small Outline Transistor, Body 6.5 x 3.5 mm, Pitch 2.3 mm; Packing: Tape and Reel; Polarity: NPN; RoHS: TRUE; Mounting Technology: Surface Mount; ComponentLink1Description: Manufacturer URL; ComponentLink1URL: http://www.onsemi.com/; ComponentLink2Description: Datasheet; ComponentLink2URL: http://www.onsemi.com/pub_link/Collateral/BF720T1-D.PDF; ComponentLink3Description: Package Specification; ComponentLink3URL: http://www.onsemi.com/pub_link/Collateral/318E-04.PDF
footprint ONSC-SOT-223-4-318E-04_V (SOT223, 4-Leads, Body 6.5x3.5mm, Pitch 2.3mm)
pins: 1 B, 2 C, 3 E, 4 C
text: 2, 4

## SCH2202-TL-E
designator Q?
Bipolar Transistor, 15 V, 0.6 A, Low VCE(sat), NPN Single, 6-Pin SOT-SCH, Pb-Free, Tape and Reel; Manufacturer: On Semiconductor; PartNumber: SCH2202-TL-E; IC Continuous (A): 0.6; Polarity: Dual NPN; PackageReference: SCH-6; PackageDescription: 6-Pin Small Outline No-Lead, Body 1.6 x 1.5 mm, Pitch 0.5 mm; Supplier 1: Digi-Key; Supplier Part Number 1: SCH2202-TL-E-ND; Supplier 2: Newark; Supplier Part Number 2: 65T1625; Supplier 3: Mouser; Supplier Part Number 3: 863-SCH2202-TL-E; Packing: Tape and Reel; RoHS: TRUE; Mounting Technology: Surface Mount; ComponentLink1Description: Manufacturer URL; ComponentLink1URL: http://www.onsemi.com/; ComponentLink2Description: Datasheet; ComponentLink2URL: http://www.onsemi.com/pub_link/Collateral/EN8043-D.PDF; ComponentLink3Description: Package Specification; ComponentLink3URL: http://www.onsemi.com/pub_link/Collateral/EN8043-D.PDF
footprint ONSC-SCH-6_V (SON, 6-Leads, Body 1.6x1.5mm, Pitch 0.5mm)
part A pins: 1 E, 2 B, 6 C
part B pins: 3 C, 4 E, 5 B

## SHN1B01FDW1T1G
designator Q?
Complementary Dual General Purpose Amplifier Transistors, PNP and NPN Surface Mount, 6-Pin SC-74, Pb-Free, Tape and Reel; Manufacturer: On Semiconductor; PartNumber: SHN1B01FDW1T1G; Note: 0; IC Continuous (A): 0.2; DatasheetVersion: Rev. 3; PackageVersion: Rev. N, 06/2012; PackageReference: SC-74-6-318F-05; PackageDescription: 6-Pin Small Outline Transistor, Body 3 x 1.5 mm, Pitch 0.95 mm; Packing: Tape and Reel; Polarity: Complementary; RoHS: TRUE; Mounting Technology: Surface Mount; ComponentLink1Description: Manufacturer URL; ComponentLink1URL: http://www.onsemi.com/; ComponentLink2Description: Datasheet; ComponentLink2URL: http://www.onsemi.com/pub_link/Collateral/HN1B01FDW1T1-D.PDF; ComponentLink3Description: Package Specification; ComponentLink3URL: http://www.onsemi.com/pub_link/Collateral/318F-05.PDF
footprint ONSC-SC-74-6-318F-05_V (SOT23, 6-Leads, Body 3x1.5mm, Pitch 0.95mm)
part A pins: 1 E, 2 B, 6 C
part B pins: 3 C, 4 E, 5 B

## SMBT3904DW1T1G
designator Q?
Dual General Purpose Transistors, 6-Pin SOT-363, Pb-Free, Tape and Reel; Manufacturer: On Semiconductor; PartNumber: SMBT3904DW1T1G; fT Min (MHz): 300; IC Continuous (A): 0.2; Polarity: Dual NPN; DatasheetVersion: Rev. 9; PackageVersion: Rev. W, 01/2006; PackageReference: SOT-363-6-419B-02_W; PackageDescription: 6-Pin Small Outline Transistor, Body 2 x 1.25 mm, Pitch 0.65 mm; Supplier 1: Digi-Key; Supplier Part Number 1: SMBT3904DW1T1G-ND; Supplier 2: Mouser; Supplier Part Number 2: 863-SMBT3904DW1T1G; Packing: Tape and Reel; RoHS: TRUE; Mounting Technology: Surface Mount; ComponentLink1Description: Manufacturer URL; ComponentLink1URL: http://www.onsemi.com/; ComponentLink2Description: Datasheet; ComponentLink2URL: http://www.onsemi.com/pub_link/Collateral/MBT3904DW1T1-D.PDF; ComponentLink3Description: Package Specification; ComponentLink3URL: http://www.onsemi.com/pub_link/Collateral/NTJD4001N-D.PDF
footprint ONSC-SOT-363-6-419B-02_W_V (SOT23, 6-Leads, Body 2x1.25mm, Pitch 0.65mm)
part A pins: 1 E, 2 B, 6 C
part B pins: 3 C, 4 E, 5 B

## SMBT3906DW1T1G
designator Q?
Dual General Purpose Transistors, 6-Pin SOT-363, Pb-Free, Tape and Reel; Manufacturer: On Semiconductor; PartNumber: SMBT3906DW1T1G; fT Min (MHz): 250; IC Continuous (A): -0.2; Polarity: Dual PNP; DatasheetVersion: Rev. 5; PackageVersion: Rev. Y, 12/2012; PackageReference: SOT-363-6-419B-02; PackageDescription: 6-Pin Small Outline Transistor, Body 2 x 1.25 mm, Pitch 0.65 mm; Supplier 1: Digi-Key; Supplier Part Number 1: SMBT3906DW1T1G-ND; Packing: Tape and Reel; RoHS: TRUE; Mounting Technology: Surface Mount; ComponentLink1Description: Manufacturer URL; ComponentLink1URL: http://www.onsemi.com/; ComponentLink2Description: Datasheet; ComponentLink2URL: http://www.onsemi.com/pub_link/Collateral/MBT3906DW1T1-D.PDF; ComponentLink3Description: Package Specification; ComponentLink3URL: http://www.onsemi.cn/pub_link/Collateral/419B-02.PDF
footprint ONSC-SOT-363-6-419B-02_V (SOT23, 6-Leads, Body 2x1.25mm, Pitch 0.65mm)
part A pins: 3 C, 4 E, 5 B
part B pins: 1 E, 2 B, 6 C

## SMBT3946DW1T1G
designator Q?
Complementary General Purpose Transistors, 6-Pin SC70, Pb-Free, Tape and Reel; Manufacturer: On Semiconductor; PartNumber: SMBT3946DW1T1G; IC Continuous (A): 0.2; DatasheetVersion: Rev. 7; PackageVersion: Rev. W; PackageReference: SC70-6-419B-02_W; PackageDescription: 6-Pin Small Outline Transistor, Body 2 x 1.25 mm, Pitch 0.65 mm; Supplier 1: Digi-Key; Supplier Part Number 1: SMBT3946DW1T1G-ND; Supplier 2: Mouser; Supplier Part Number 2: 863-SMBT3946DW1T1G; Packing: Tape and Reel; Polarity: Complementary; RoHS: TRUE; Mounting Technology: Surface Mount; ComponentLink1Description: Manufacturer URL; ComponentLink1URL: http://www.onsemi.com/; ComponentLink2Description: Datasheet; ComponentLink2URL: http://www.onsemi.com/pub_link/Collateral/MBT3946DW1T1-D.PDF; ComponentLink3Description: Package Specification; ComponentLink3URL: http://www.onsemi.com/pub_link/Collateral/SMF05C-D.PDF
footprint ONSC-SC70-6-419B-02_W_V (SOT23, 6-Leads, Body 2x1.25mm, Pitch 0.65mm)
part A pins: 3 C, 4 E, 5 B
part B pins: 1 E, 2 B, 6 C

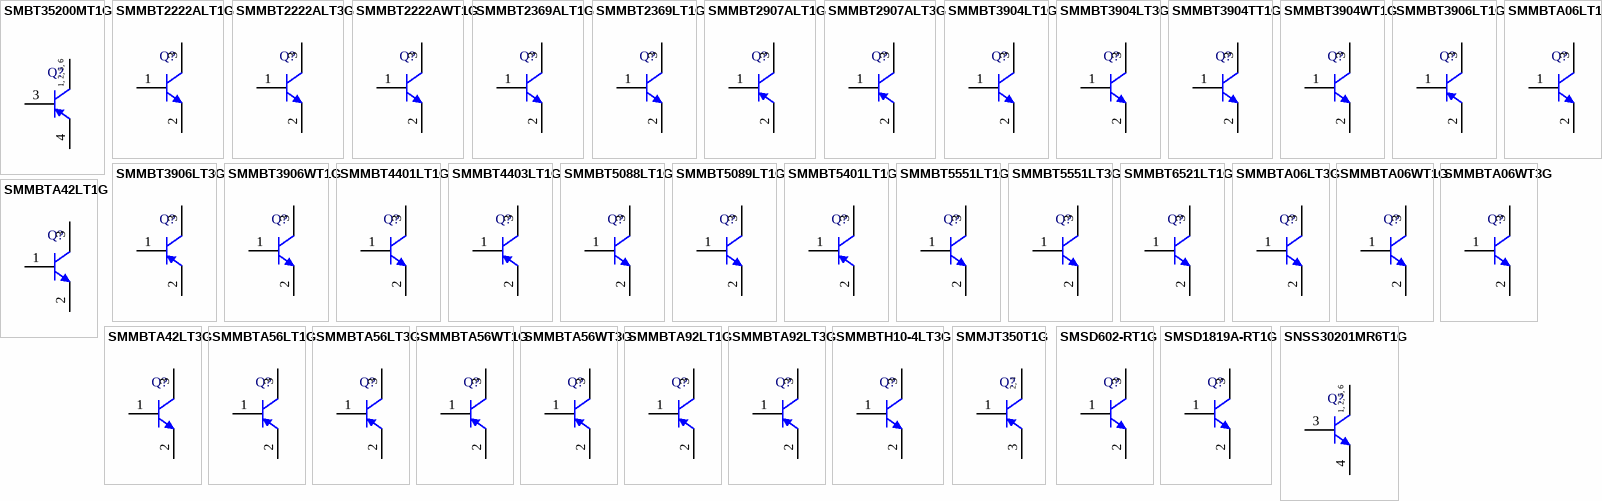
[diagram p42: symbols SMBT35200MT1G to SNSS30201MR6T1G]

## SMBT35200MT1G
designator Q?
High Current Surface Mount PNP Silicon Switching Transistor for Load Management in Portable Application, 6-Pin TSOP, Pb-Free, Tape and Reel; Manufacturer: On Semiconductor; PartNumber: SMBT35200MT1G; Note: 0; fT Min (MHz): 100; IC Continuous (A): -2; DatasheetVersion: Rev. 5; PackageVersion: Rev. V, 06/2012; PackageReference: TSOP-6-318G-02; PackageDescription: 6-Pin Small Outline Package, Body 3 x 1.5 mm, Pitch 0.95 mm; Packing: Tape and Reel; Polarity: PNP; RoHS: TRUE; Mounting Technology: Surface Mount; ComponentLink1Description: Manufacturer URL; ComponentLink1URL: http://www.onsemi.com/; ComponentLink2Description: Datasheet; ComponentLink2URL: http://www.onsemi.com/pub_link/Collateral/MBT35200MT1-D.PDF; ComponentLink3Description: Package Specification; ComponentLink3URL: http://www.onsemi.com/pub_link/Collateral/318G-02.PDF
footprint ONSC-TSOP-6-318G-02_V (SOP, 6-Leads, Body 3x1.5mm, Pitch 0.95mm)
pins: 1 C, 2 C, 3 B, 4 E, 5 C, 6 C
text: 1, 2, 5, 6

## SMMBT2222ALT1G
designator Q?
General Purpose Transistor, NPN Silicon, 3-Pin SOT-23, Pb-Free, Tape and Reel; Manufacturer: On Semiconductor; PartNumber: SMMBT2222ALT1G; fT Min (MHz): 300; IC Continuous (A): 0.6; DatasheetVersion: Rev. 10; PackageVersion: Rev. AP, 11/2009; PackageReference: SOT-23-3-318-08; PackageDescription: 3-Pin Small Outline Transistor, Body 2.92 x 1.3 mm, Pitch 0.95 mm; Supplier 1: Digi-Key; Supplier Part Number 1: SMMBT2222ALT1G-ND; Supplier 2: Mouser; Supplier Part Number 2: 863-SMMBT2222ALT1G; Packing: Tape and Reel; Polarity: NPN; RoHS: TRUE; Mounting Technology: Surface Mount; ComponentLink1Description: Manufacturer URL; ComponentLink1URL: http://www.onsemi.com/; ComponentLink2Description: Datasheet; ComponentLink2URL: http://www.onsemi.cn/pub_link/Collateral/MMBT2222LT1-D.PDF; ComponentLink3Description: Package Specification; ComponentLink3URL: http://www.onsemi.cn/pub_link/Collateral/318-08.PDF
footprint ONSC-SOT-23-3-318-08_V (SOT23, 3-Leads, Body 2.92x1.3mm, Pitch 0.95mm)
pins: 1 B, 2 E, 3 C

## SMMBT2222ALT3G
designator Q?
General Purpose Transistor, NPN Silicon, 3-Pin SOT-23, Pb-Free, Tape and Reel; Manufacturer: On Semiconductor; PartNumber: SMMBT2222ALT3G; fT Min (MHz): 300; IC Continuous (A): 0.6; DatasheetVersion: Rev. 10; PackageVersion: Rev. AP, 11/2009; PackageReference: SOT-23-3-318-08; PackageDescription: 3-Pin Small Outline Transistor, Body 2.92 x 1.3 mm, Pitch 0.95 mm; Supplier 1: Digi-Key; Supplier Part Number 1: SMMBT2222ALT3G-ND; Supplier 2: Newark; Supplier Part Number 2: 76T7294; Supplier 3: Mouser; Supplier Part Number 3: 863-SMMBT2222ALT3G; Packing: Tape and Reel; Polarity: NPN; RoHS: TRUE; Mounting Technology: Surface Mount; ComponentLink1Description: Manufacturer URL; ComponentLink1URL: http://www.onsemi.com/; ComponentLink2Description: Datasheet; ComponentLink2URL: http://www.onsemi.cn/pub_link/Collateral/MMBT2222LT1-D.PDF; ComponentLink3Description: Package Specification; ComponentLink3URL: http://www.onsemi.cn/pub_link/Collateral/318-08.PDF
footprint ONSC-SOT-23-3-318-08_V (SOT23, 3-Leads, Body 2.92x1.3mm, Pitch 0.95mm)
pins: 1 B, 2 E, 3 C

## SMMBT2222AWT1G
designator Q?
General Purpose Transistor, NPN Silicon, 3-Pin SC70, Pb-Free, Tape and Reel; Manufacturer: On Semiconductor; PartNumber: SMMBT2222AWT1G; fT Min (MHz): 300; IC Continuous (A): 0.6; DatasheetVersion: Rev. 6; PackageVersion: Rev. N, 11/2008; PackageReference: SC-70-3-419-04; PackageDescription: 3-Pin Small Outline Transistor, Body 2 x 1.25 mm, Pitch 0.65 mm; Supplier 1: Digi-Key; Supplier Part Number 1: SMMBT2222AWT1G-ND; Supplier 2: Mouser; Supplier Part Number 2: 863-SMMBT2222AWT1G; Packing: Tape and Reel; Polarity: NPN; RoHS: TRUE; Mounting Technology: Surface Mount; ComponentLink1Description: Manufacturer URL; ComponentLink1URL: http://www.onsemi.com/; ComponentLink2Description: Datasheet; ComponentLink2URL: http://www.onsemi.cn/pub_link/Collateral/MMBT2222AWT1-D.PDF; ComponentLink3Description: Package Specification; ComponentLink3URL: http://www.onsemi.cn/pub_link/Collateral/419-04.PDF
footprint ONSC-SC-70-3-419-04_V (SOT23, 3-Leads, Body 2x1.25mm, Pitch 0.65mm)
pins: 1 B, 2 E, 3 C

## SMMBT2369ALT1G
designator Q?
Switching Transistor, NPN Silicon, 3-Pin SOT-23, Pb-Free, Tape and Reel; Manufacturer: On Semiconductor; PartNumber: SMMBT2369ALT1G; Note: 0; IC Continuous (A): 0.2; DatasheetVersion: Rev. 8; PackageVersion: Rev. AP, 11/2009; PackageReference: SOT-23-3-318-08; PackageDescription: 3-Pin Small Outline Transistor, Body 2.92 x 1.3 mm, Pitch 0.95 mm; Packing: Tape and Reel; Polarity: NPN; RoHS: TRUE; Mounting Technology: Surface Mount; ComponentLink1Description: Manufacturer URL; ComponentLink1URL: http://www.onsemi.com/; ComponentLink2Description: Datasheet; ComponentLink2URL: http://www.onsemi.cn/pub_link/Collateral/MMBT2369LT1-D.PDF; ComponentLink3Description: Package Specification; ComponentLink3URL: http://www.onsemi.cn/pub_link/Collateral/318-08.PDF
footprint ONSC-SOT-23-3-318-08_V (SOT23, 3-Leads, Body 2.92x1.3mm, Pitch 0.95mm)
pins: 1 B, 2 E, 3 C

## SMMBT2369LT1G
designator Q?
Switching Transistor, NPN Silicon, 3-Pin SOT-23, Pb-Free, Tape and Reel; Manufacturer: On Semiconductor; PartNumber: SMMBT2369LT1G; Note: 0; IC Continuous (A): 0.2; DatasheetVersion: Rev. 8; PackageVersion: Rev. AP, 11/2009; PackageReference: SOT-23-3-318-08; PackageDescription: 3-Pin Small Outline Transistor, Body 2.92 x 1.3 mm, Pitch 0.95 mm; Packing: Tape and Reel; Polarity: NPN; RoHS: TRUE; Mounting Technology: Surface Mount; ComponentLink1Description: Manufacturer URL; ComponentLink1URL: http://www.onsemi.com/; ComponentLink2Description: Datasheet; ComponentLink2URL: http://www.onsemi.cn/pub_link/Collateral/MMBT2369LT1-D.PDF; ComponentLink3Description: Package Specification; ComponentLink3URL: http://www.onsemi.cn/pub_link/Collateral/318-08.PDF
footprint ONSC-SOT-23-3-318-08_V (SOT23, 3-Leads, Body 2.92x1.3mm, Pitch 0.95mm)
pins: 1 B, 2 E, 3 C

## SMMBT2907ALT1G
designator Q?
General Purpose Transistor, PNP Silicon, 3-Pin SOT-23, Pb-Free, Tape and Reel; Manufacturer: On Semiconductor; PartNumber: SMMBT2907ALT1G; fT Min (MHz): 200; IC Continuous (A): -0.6; DatasheetVersion: Rev. 13; PackageVersion: Rev. AP, 11/2009; PackageReference: SOT-23-3-318-08; PackageDescription: 3-Pin Small Outline Transistor, Body 2.92 x 1.3 mm, Pitch 0.95 mm; Supplier 1: Digi-Key; Supplier Part Number 1: SMMBT2907ALT1G-ND; Supplier 2: Newark; Supplier Part Number 2: 76T7296; Supplier 3: Mouser; Supplier Part Number 3: 863-SMMBT2907ALT1G; Packing: Tape and Reel; Polarity: PNP; RoHS: TRUE; Mounting Technology: Surface Mount; ComponentLink1Description: Manufacturer URL; ComponentLink1URL: http://www.onsemi.com/; ComponentLink2Description: Datasheet; ComponentLink2URL: http://www.onsemi.cn/pub_link/Collateral/MMBT2907ALT1-D.PDF; ComponentLink3Description: Package Specification; ComponentLink3URL: http://www.onsemi.cn/pub_link/Collateral/318-08.PDF
footprint ONSC-SOT-23-3-318-08_V (SOT23, 3-Leads, Body 2.92x1.3mm, Pitch 0.95mm)
pins: 1 B, 2 E, 3 C

## SMMBT2907ALT3G
designator Q?
General Purpose Transistor, PNP Silicon, 3-Pin SOT-23, Pb-Free, Tape and Reel; Manufacturer: On Semiconductor; PartNumber: SMMBT2907ALT3G; fT Min (MHz): 200; IC Continuous (A): -0.6; DatasheetVersion: Rev. 13; PackageVersion: Rev. AP, 11/2009; PackageReference: SOT-23-3-318-08; PackageDescription: 3-Pin Small Outline Transistor, Body 2.92 x 1.3 mm, Pitch 0.95 mm; Supplier 1: Digi-Key; Supplier Part Number 1: SMMBT2907ALT3G-ND; Supplier 2: Mouser; Supplier Part Number 2: 863-SMMBT2907ALT3G; Packing: Tape and Reel; Polarity: PNP; RoHS: TRUE; Mounting Technology: Surface Mount; ComponentLink1Description: Manufacturer URL; ComponentLink1URL: http://www.onsemi.com/; ComponentLink2Description: Datasheet; ComponentLink2URL: http://www.onsemi.cn/pub_link/Collateral/MMBT2907ALT1-D.PDF; ComponentLink3Description: Package Specification; ComponentLink3URL: http://www.onsemi.cn/pub_link/Collateral/318-08.PDF
footprint ONSC-SOT-23-3-318-08_V (SOT23, 3-Leads, Body 2.92x1.3mm, Pitch 0.95mm)
pins: 1 B, 2 E, 3 C

## SMMBT3904LT1G
designator Q?
General Purpose Transistor, NPN Silicon, 3-Pin SOT-23, Pb-Free, Tape and Reel; Manufacturer: On Semiconductor; PartNumber: SMMBT3904LT1G; fT Min (MHz): 300; IC Continuous (A): 0.2; DatasheetVersion: Rev. 12; PackageVersion: Rev. AP, 11/2009; PackageReference: SOT-23-3-318-08; PackageDescription: 3-Pin Small Outline Transistor, Body 2.92 x 1.3 mm, Pitch 0.95 mm; Supplier 1: Digi-Key; Supplier Part Number 1: SMMBT3904LT1GOSTR-ND; Supplier 2: Digi-Key; Supplier Part Number 2: SMMBT3904LT1GOSCT-ND; Supplier 3: Digi-Key; Supplier Part Number 3: SMMBT3904LT1GOSDKR-ND; Supplier 4: Newark; Supplier Part Number 4: 76T7298; Supplier 5: Mouser; Supplier Part Number 5: 863-SMMBT3904LT1G; Packing: Tape and Reel; Polarity: NPN; RoHS: TRUE; Mounting Technology: Surface Mount; ComponentLink1Description: Manufacturer URL; ComponentLink1URL: http://www.onsemi.com/; ComponentLink2Description: Datasheet; ComponentLink2URL: http://www.onsemi.cn/pub_link/Collateral/MMBT3904LT1-D.PDF; ComponentLink3Description: Package Specification; ComponentLink3URL: http://www.onsemi.cn/pub_link/Collateral/318-08.PDF
footprint ONSC-SOT-23-3-318-08_V (SOT23, 3-Leads, Body 2.92x1.3mm, Pitch 0.95mm)
pins: 1 B, 2 E, 3 C

## SMMBT3904LT3G
designator Q?
General Purpose Transistor, NPN Silicon, 3-Pin SOT-23, Pb-Free, Tape and Reel; Manufacturer: On Semiconductor; PartNumber: SMMBT3904LT3G; fT Min (MHz): 300; IC Continuous (A): 0.2; DatasheetVersion: Rev. 12; PackageVersion: Rev. AP, 11/2009; PackageReference: SOT-23-3-318-08; PackageDescription: 3-Pin Small Outline Transistor, Body 2.92 x 1.3 mm, Pitch 0.95 mm; Supplier 1: Mouser; Supplier Part Number 1: N/A; Packing: Tape and Reel; Polarity: NPN; RoHS: TRUE; Mounting Technology: Surface Mount; ComponentLink1Description: Manufacturer URL; ComponentLink1URL: http://www.onsemi.com/; ComponentLink2Description: Datasheet; ComponentLink2URL: http://www.onsemi.cn/pub_link/Collateral/MMBT3904LT1-D.PDF; ComponentLink3Description: Package Specification; ComponentLink3URL: http://www.onsemi.cn/pub_link/Collateral/318-08.PDF
footprint ONSC-SOT-23-3-318-08_V (SOT23, 3-Leads, Body 2.92x1.3mm, Pitch 0.95mm)
pins: 1 B, 2 E, 3 C

## SMMBT3904TT1G
designator Q?
General Purpose Transistor, NPN Silicon, 3-Pin SC-75, Pb-Free, Tape and Reel; Manufacturer: On Semiconductor; PartNumber: SMMBT3904TT1G; fT Min (MHz): 300; IC Continuous (A): 0.2; DatasheetVersion: Rev. 5; PackageVersion: Rev. F, 07/2005; PackageReference: SC-75-3-463-01; PackageDescription: 3-Pin Small Outline Transistor, Body 1.6 x 0.8 mm, Pitch 0.5 mm; Supplier 1: Digi-Key; Supplier Part Number 1: SMMBT3904TT1G-ND; Supplier 2: Mouser; Supplier Part Number 2: 863-SMMBT3904TT1G; Packing: Tape and Reel; Polarity: NPN; RoHS: TRUE; Mounting Technology: Surface Mount; ComponentLink1Description: Manufacturer URL; ComponentLink1URL: http://www.onsemi.com/; ComponentLink2Description: Datasheet; ComponentLink2URL: http://www.onsemi.cn/pub_link/Collateral/MMBT3904TT1-D.PDF; ComponentLink3Description: Package Specification; ComponentLink3URL: http://www.onsemi.com/pub_link/Collateral/463-01.PDF
footprint ONSC-SC-75-3-463-01_V (SOT23, 3-Leads, Body 1.6x0.8mm, Pitch 0.5mm)
pins: 1 B, 2 E, 3 C